# Altium footprint library 4..电磁巡线探头模块PCB封装库.PcbLib: 3 footprints
Each footprint in its own frame and in the unit in brackets; x right, y up, seen from the top. Pads: shape width x height; smd on the part's side, far side on the other; paste and mask are expansions set on the pad; w line width, h text height; cw(c..) or ccw(c..) is an arc to the next point about the centre after c.
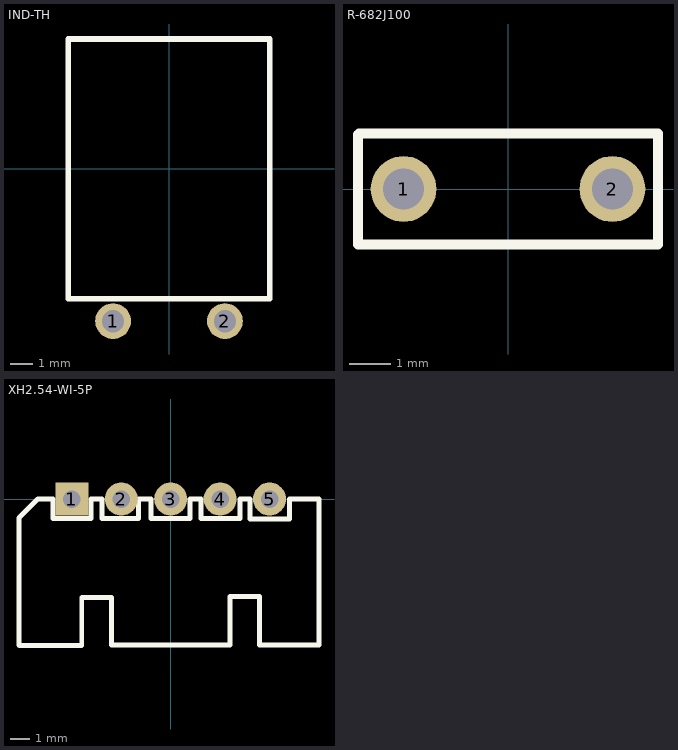
[diagram p0: the footprints below, top view; thin cyan lines are the x and y axes]

## IND-TH [mm]
pads (2):
  round 1.6 hole 1 mask+0.051: 1(-2.5,-6.8) 2(2.5,-6.8)
Top Overlay:
  lines w0.254: -4.5,-5.805 -4.5,5.8 4.5,5.8 4.5,-5.805 -4.5,-5.799
3D body "零件1(2).STEP": height 6.6, standoff -2.6, extent -3.309,-7.544 3.291,5.806

## R-682J100 [mm]
pads (2):
  round 1.6 hole 1 mask+0.051: 1(-2.54,0) 2(2.54,0)
Top Overlay:
  lines w0.254: -3.65,-1.35 3.65,-1.35 ; -3.65,-1.339 -3.65,1.325 -3.625,1.35 3.65,1.35 3.65,-1.346
3D body "零件2(2).STEP": height 6.5, standoff -2.6, extent -3.597,-1.238 3.703,1.362

## XH2.54-WI-5P [mm] "接插件，5P"
pads (5):
  rect 1.7x1.7 hole 0.9: 1(-5.08,0)
  round 1.7 hole 0.9: 2(-2.54,0) 3(0,0) 4(2.54,0) 5(5.08,0)
Top Overlay:
  lines w0.254: -1.646,0 -1.646,-0.988 -1.66,-1.002 -3.526,-1.002 -3.526,0 -4.098,0 -4.098,-0.982 -4.084,-0.996 -6.04,-0.996 -6.054,-0.982 -6.054,0 -6.83,0 -7.412,-0.582 -7.796,-0.966 -7.796,-7.502 -7.77,-7.528 -4.572,-7.528 -4.572,-5.058 -3.048,-5.058 -3.048,-7.502 3.048,-7.502 3.048,-5.006 4.572,-5.006 4.572,-7.49 7.62,-7.49 7.62,0 6.096,0 6.096,-1.016 4.064,-1.016 4.064,0 3.556,0 3.556,-1.002 1.552,-1.002 1.552,0 ; -1.634,0 -1.036,0 ; -1.022,-0.996 -1.022,0 ; -1.002,-0.996 0.986,-0.996 0.992,-0.99 0.992,0 1.538,0
3D body "XH2_54-5P_H.STEP": height 2.89, standoff -6.21, extent -7.58,-7.7 7.58,0